# Altium footprint library SMT Chips.PcbLib: 19 footprints (part 2 of 2)
Each footprint in its own frame and in the unit in brackets; x right, y up, seen from the top. Pads: shape width x height; smd on the part's side, far side on the other; paste and mask are expansions set on the pad; w line width, h text height; cw(c..) or ccw(c..) is an arc to the next point about the centre after c.
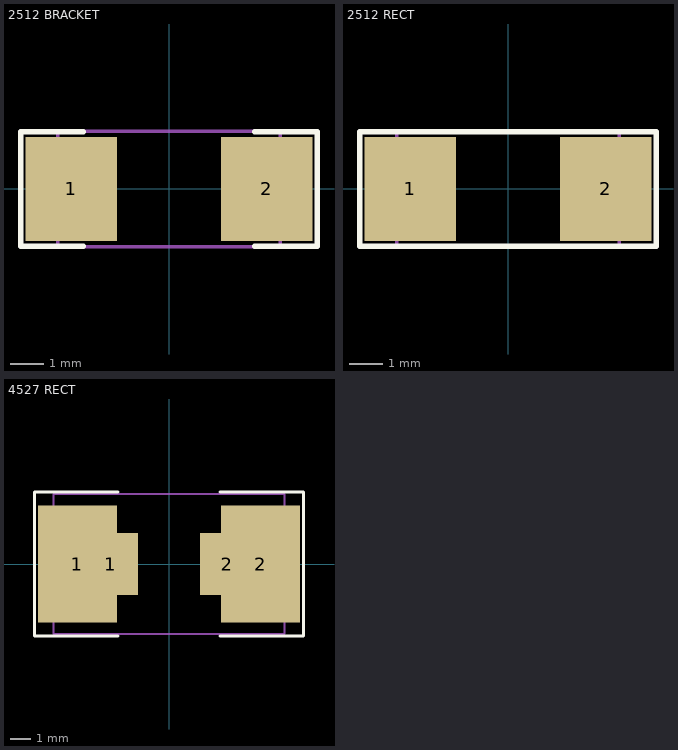
[diagram p1: the footprints below, top view; thin cyan lines are the x and y axes]

## 2512 BRACKET [mm] "Chip Resistor 2512 BRACKET (Bourns CRA)"
height 0.889
pads (2):
  rect 2.7x3.1 smd paste-0.125 mask+0.051: 1(-2.9,0) 2(2.9,0)
Top Overlay:
  lines w0.152: -2.54,-1.7 -4.4,-1.7 -4.4,1.7 -2.54,1.7 ; 2.54,-1.7 4.4,-1.7 4.4,1.7 2.54,1.7
Mechanical 13:
  lines w0.1: -3.3,-1.715 -3.3,1.715 3.3,1.715 3.3,-1.715 -3.3,-1.715
3D body: height 0.89, standoff 0, extent -3.3,-1.715 3.3,1.715

## 2512 RECT [mm] "Chip Resistor 2512 RECT (Bourns CRA)"
height 0.889
pads (2):
  rect 2.7x3.1 smd paste-0.125 mask+0.051: 1(-2.9,0) 2(2.9,0)
Top Overlay:
  lines w0.152: -4.4,-1.7 -4.4,1.7 4.4,1.7 4.4,-1.7 -4.4,-1.7
Mechanical 13:
  lines w0.1: -3.3,-1.715 -3.3,1.715 3.3,1.715 3.3,-1.715 -3.3,-1.715
3D body: height 0.89, standoff 0, extent -3.3,-1.715 3.3,1.715

## 4527 RECT [mm]
height 2.7
pads (4):
  rect 3.94x5.84 smd paste-0.125 mask+0.051: 1(-4.575,0) 2(4.575,0)
  rect 2.7x3.1 smd paste-0.5 mask+0.051: 1(-2.9,0) 2(2.9,0)
Top Overlay:
  lines w0.152: -2.54,-3.6 -6.731,-3.6 -6.731,3.6 -2.54,3.6 ; 2.54,-3.6 6.731,-3.6 6.731,3.6 2.54,3.6
Mechanical 13:
  lines w0.1: -5.78,-3.5 5.78,-3.5 5.78,3.5 -5.78,3.5 -5.78,-3.5
3D body: height 1, standoff 0, extent 4,-2.8 6,2.8
3D body: height 1, standoff 0, extent -6,-2.8 -4,2.8
3D body: height 2.5, standoff 0.2, extent -5.779,-3.499 5.779,3.499